# Altium footprint library VQFN_RHB.PcbLib: 1 footprints
Each footprint in its own frame and in the unit in brackets; x right, y up, seen from the top. Pads: shape width x height; smd on the part's side, far side on the other; paste and mask are expansions set on the pad; w line width, h text height; cw(c..) or ccw(c..) is an arc to the next point about the centre after c.
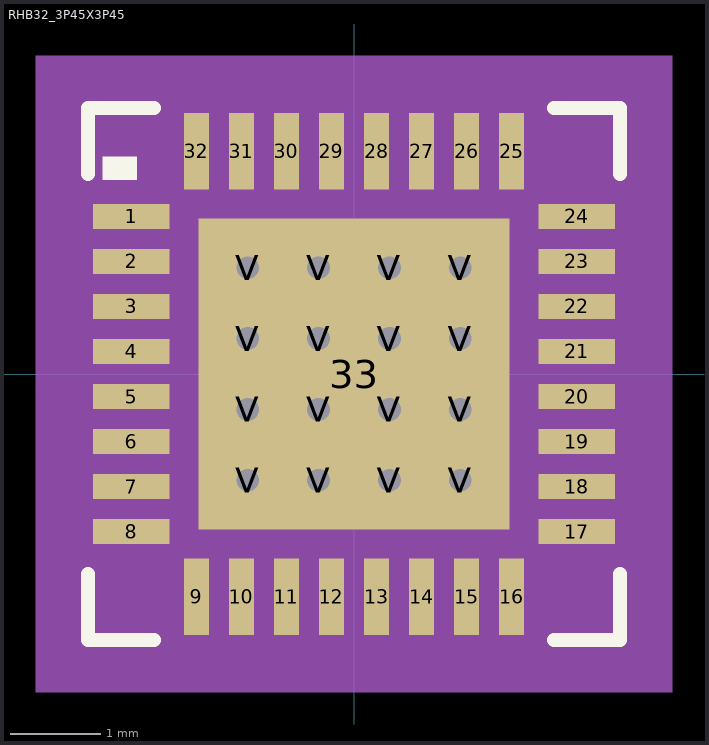
[diagram p0: the footprint, top view; thin cyan lines are the x and y axes]

## RHB32_3P45X3P45 [mm]
pads (49):
  rect 0.85x0.28 smd paste+0 mask+0: 1(-2.475,1.75) 2(-2.475,1.25) 3(-2.475,0.75) 4(-2.475,0.25) 5(-2.475,-0.25) 6(-2.475,-0.75) 7(-2.475,-1.25) 8(-2.475,-1.75) 17(2.475,-1.75) 18(2.475,-1.25) 19(2.475,-0.75) 20(2.475,-0.25) 21(2.475,0.25) 22(2.475,0.75) 23(2.475,1.25) 24(2.475,1.75)
  rect 0.28x0.85 smd paste+0 mask+0: 9(-1.75,-2.475) 10(-1.25,-2.475) 11(-0.75,-2.475) 12(-0.25,-2.475) 13(0.25,-2.475) 14(0.75,-2.475) 15(1.25,-2.475) 16(1.75,-2.475) 25(1.75,2.475) 26(1.25,2.475) 27(0.75,2.475) 28(0.25,2.475) 29(-0.25,2.475) 30(-0.75,2.475) 31(-1.25,2.475) 32(-1.75,2.475)
  rect 3.45x3.45 smd paste-1.725 mask-1.714: 33(0,0)
  round 0.508 hole 0.254: V(-1.181,-1.181) V(-1.181,-0.394) V(-1.181,0.394) V(-1.181,1.181) V(-0.394,-1.181) V(-0.394,-0.394) V(-0.394,0.394) V(-0.394,1.181) V(0.394,-1.181) V(0.394,-0.394) V(0.394,0.394) V(0.394,1.181) V(1.181,-1.181) V(1.181,-0.394) V(1.181,0.394) V(1.181,1.181)
Top Overlay:
  region: -2.413,2.159 -2.794,2.159 -2.794,2.413 -2.413,2.413
  lines w0.152: -2.956,-2.218 -2.956,-2.956 -2.218,-2.956 ; -2.956,2.218 -2.956,2.956 -2.218,2.956 ; 2.218,-2.956 2.956,-2.956 2.956,-2.218 ; 2.218,2.956 2.956,2.956 2.956,2.218
Top Paste:
  drawing of 25 lines, arcs and shapes, not listed
Top Solder:
  region: -1.789,1.381 -1.789,1.789 1.789,1.789 1.789,1.381
  region: -1.789,0.594 -1.789,0.981 1.789,0.981 1.789,0.594
  region: -1.789,-0.194 -1.789,0.194 1.789,0.194 1.789,-0.194
  region: -1.789,-0.981 -1.789,-0.594 1.789,-0.594 1.789,-0.981
  region: -1.789,-1.789 -1.789,-1.381 1.789,-1.381 1.789,-1.789
  region: -1.789,-1.789 -1.789,1.789 -1.381,1.789 -1.381,-1.789
  region: -0.594,-1.789 -0.594,1.789 -0.981,1.789 -0.981,-1.789
  region: 0.194,-1.789 0.194,1.789 -0.194,1.789 -0.194,-1.789
  region: 0.981,-1.789 0.981,1.789 0.594,1.789 0.594,-1.789
  region: 1.381,-1.789 1.381,1.789 1.789,1.789 1.789,-1.789
Mechanical 5:
  region: 3.535,-3.535 -3.535,-3.535 -3.535,3.535 3.535,3.535
Mechanical 13:
  lines w0.025: -2.575,1.305 -1.305,2.575 ; -2.575,-2.575 2.575,-2.575 2.575,2.575 -2.575,2.575 -2.575,-2.575
  text "*" at -2.114,1.365 h1.27
Mechanical 15:
  region: -2.144,-2.829 -2.829,-2.829 -2.829,-2.144 -3.154,-2.144 -3.154,2.144 -2.829,2.144 -2.829,2.829 -2.144,2.829 -2.144,3.154 2.144,3.154 2.144,2.829 2.829,2.829 2.829,2.144 3.154,2.144 3.154,-2.144 2.829,-2.144 2.829,-2.829 2.144,-2.829 2.144,-3.154 -2.144,-3.154
  lines w0.152: -3.154,-2.144 -2.829,-2.144 -2.829,-2.829 -2.144,-2.829 -2.144,-3.154 2.144,-3.154 2.144,-2.829 2.829,-2.829 2.829,-2.144 3.154,-2.144 3.154,2.144 2.829,2.144 2.829,2.829 2.144,2.829 2.144,3.154 -2.144,3.154 -2.144,2.829 -2.829,2.829 -2.829,2.144 -3.154,2.144 -3.154,-2.144
3D body "VQFN_RHB32_3P45X3P45.step": height 1.4, standoff 0, extent -2.626,-2.626 2.626,2.626